# EAGLE library part AD-ADXL372 (library FaBo-Mems)
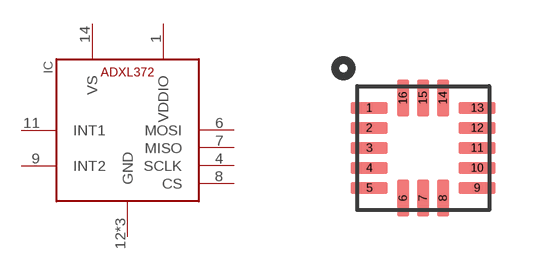
[diagram p41: symbol with the pads of CC-16-4; footprint CC-16-4]

Designator prefix IC

## AD-ADXL372  [CC-16-4]
1  VDDIO
4  SCLK
6  MOSI
7  MISO
8  CS
9  INT2
11  INT1
12  GND
13  GND
14  VS
16  GND

## Footprint CC-16-4 (pad centres in mm)
smd 0.925 x 0.3: 1 -1.35,1; 2 -1.35,0.5; 3 -1.35,0; 4 -1.35,-0.5; 5 -1.35,-1; 9 1.35,-1; 10 1.35,-0.5; 11 1.35,0; 12 1.35,0.5; 13 1.35,1
smd 0.3 x 0.925: 6 -0.5,-1.25; 7 0,-1.25; 8 0.5,-1.25; 14 0.5,1.25; 15 0,1.25; 16 -0.5,1.25